# Altium footprint library FootPrintLib.PcbLib: 13 footprints
Each footprint in its own frame and in the unit in brackets; x right, y up, seen from the top. Pads: shape width x height; smd on the part's side, far side on the other; paste and mask are expansions set on the pad; w line width, h text height; cw(c..) or ccw(c..) is an arc to the next point about the centre after c.
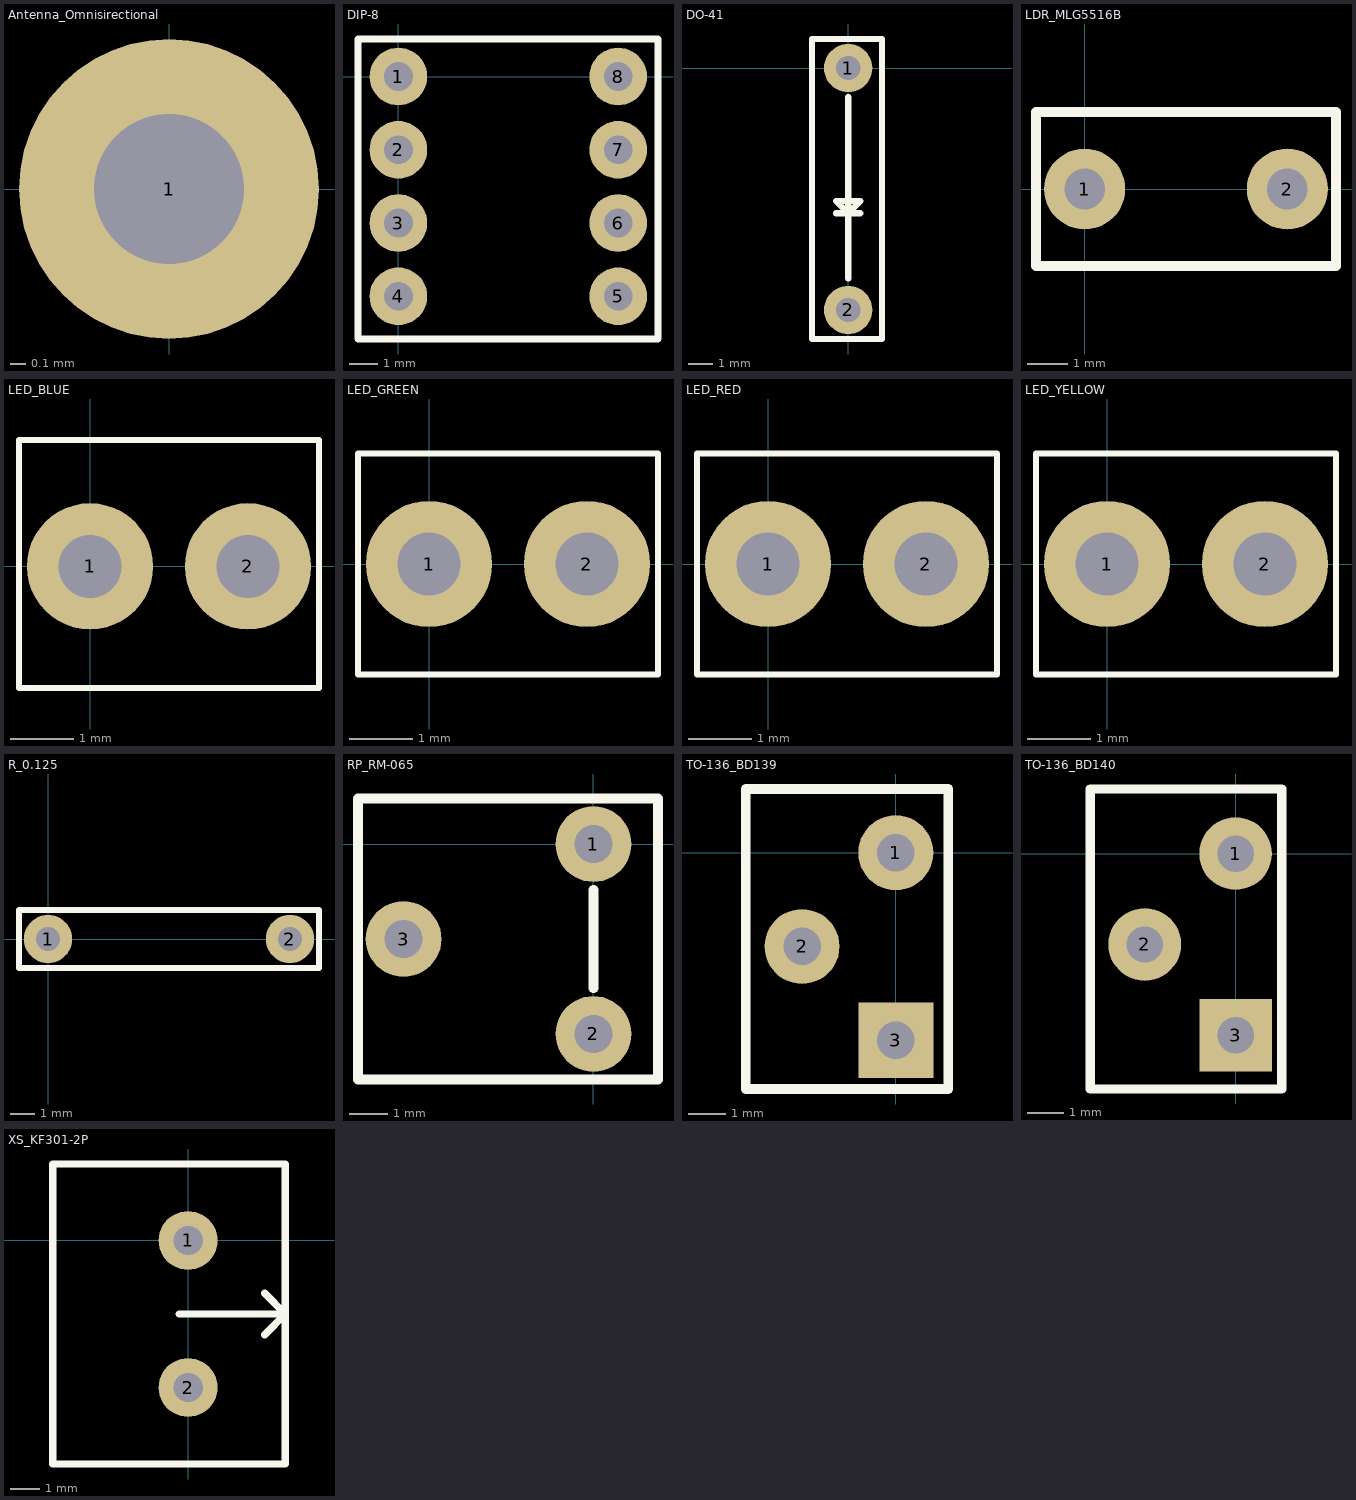
[diagram p0: the footprints below, top view; thin cyan lines are the x and y axes]

## Antenna_Omnisirectional [mm]
pads (1):
  round 2 hole 1: 1(0,0)

## DIP-8 [mm]
pads (8):
  round 2 hole 1: 1(0,0) 2(0,-2.54) 3(0,-5.08) 4(0,-7.62) 5(7.62,-7.62) 6(7.62,-5.08) 7(7.62,-2.54) 8(7.62,0)
Top Overlay:
  lines w0.254: -1.4,-9.1 9,-9.1 9,1.3 -1.4,1.3 -1.4,-9.1
3D body "DIP8.STEP": height 4.39, standoff -1.46, extent -0.07,-8.4 7.8,0.8

## DO-41 [mm]
pads (2):
  round 2 hole 1: 1(0,0) 2(0,-10)
Top Overlay:
  lines w0.254: -0.5,-6 0.5,-6 ; 0,-8.7 0,-1.2 ; 0,-6 0,-6 ; 0,-6 -0.5,-5.5 0.5,-5.5 ; 0,-6 0.5,-5.5 ; 0.5,-5.5 0.5,-5.5 ; -1.5,-11.2 -1.5,1.2 1.4,1.2 1.4,-11.2 -1.5,-11.2
3D body "Diodo 1N4007.STEP": height 3.35, standoff -1.38, extent -1.376,-10.577 1.326,0.483

## LDR_MLG5516B [mm]
pads (2):
  round 2 hole 1: 1(0,0) 2(5,0)
Top Overlay:
  lines w0.254: -1.2,-1.9 6.2,-1.9 6.2,1.9 -1.2,1.9 -1.2,-1.9
3D body "LDR_2.54.step": height 5, standoff -4.5, extent 0.182,-1.8 4.818,1.8

## LED_BLUE [mm]
pads (2):
  round 2 hole 1: 1(0,0) 2(2.5,0)
Top Overlay:
  lines w0.1: -1.125,-1.925 -1.125,0.125 -1.125,2 3.625,2 3.625,-1.925 -1.125,-1.925
3D body "LED 3mm Blue 3mm Leads.step": height 5.69, standoff -2.69, extent -0.423,-1.9 3.022,1.95

## LED_GREEN [mm]
pads (2):
  round 2 hole 1: 1(0,0) 2(2.5,0)
Top Overlay:
  lines w0.1: -1.125,-1.75 3.625,-1.75 3.625,1.75 -1.125,1.75 -1.125,-1.75
3D body "LED 3mm Green.STEP": height 4.5, standoff -2, extent -0.381,-1.75 2.95,1.75

## LED_RED [mm]
pads (2):
  round 2 hole 1: 1(0,0) 2(2.5,0)
Top Overlay:
  lines w0.1: -1.125,-1.75 -1.125,1.75 3.625,1.75 3.625,-1.75 -1.125,-1.75
3D body "LED 3mm RED.STEP": height 5, standoff -1.5, extent -0.331,-1.75 3,1.75

## LED_YELLOW [mm]
pads (2):
  round 2 hole 1: 1(0,0) 2(2.5,0)
Top Overlay:
  lines w0.1: -1.125,-1.75 -1.125,1.75 3.625,1.75 3.625,-1.75 -1.125,-1.75
3D body "LED 3mm Yellow.STEP": height 5, standoff -1.5, extent -0.281,-1.75 3.05,1.75

## R_0.125 [mm]
pads (2):
  round 2 hole 1: 1(0,0) 2(10,0)
Top Overlay:
  lines w0.254: -1.2,-1.2 -1.2,1.2 11.2,1.2 11.2,-1.2 -1.2,-1.2
3D body "Resistor_Ñ1-4_horizontal_0.25W_10pitch.stp": height 2.5, standoff -3, extent -0.3,-1.142 10.3,1.142

## RP_RM-065 [mm]
pads (3):
  round 2 hole 1: 1(0,0) 2(0,-5) 3(-5,-2.5)
Top Overlay:
  lines w0.254: 0,-3.8 0,-1.2 ; -6.2,-6.2 1.7,-6.2 1.7,1.2 -6.2,1.2 -6.2,-6.2
3D body "Potentiometer_Trim_THT.step": height 8.35, standoff -2.7, extent -5.6,-5.7 1.6,0.78

## TO-136_BD139 [mm]
pads (3):
  round 2 hole 1: 1(0,0) 2(-2.5,-2.5)
  rect 2x2 hole 1: 3(0,-5)
Top Overlay:
  lines w0.254: -4,-6.3 1.397,-6.3 1.397,1.7 -4,1.7 -4,-6.3
3D body "BD139.stp": height 14.05, standoff -13, extent -1.634,-6.186 1.266,1.614

## TO-136_BD140 [mm]
pads (3):
  round 2 hole 1: 1(0,0) 2(-2.5,-2.5)
  rect 2x2 hole 1: 3(0,-5)
Top Overlay:
  lines w0.254: -4,-6.477 1.27,-6.477 1.27,1.778 -4,1.778 -4,-6.477
3D body "BD140.SLDPRT": height 12.4, standoff -14.4, extent -1.701,-6.3 1,1.5

## XS_KF301-2P [mm]
pads (2):
  round 2 hole 1: 1(0,0) 2(0,-5)
Top Overlay:
  lines w0.254: -0.3,-2.5 2.6,-2.5 3.3,-2.5 ; 2.6,-3.2 3.3,-2.5 ; 2.6,-1.8 3.3,-2.5 ; 3,-2.5 3.3,-2.5 ; -4.6,-7.6 3.3,-7.6 3.3,2.6 -4.6,2.6 -4.6,-7.6
3D body "KF301-5.0-2P.step": height 11, standoff -2.6, extent -4.5,-7.5 3.2,2.5